# EAGLE library part IC-LDO-MIC5355-* (library mylib)
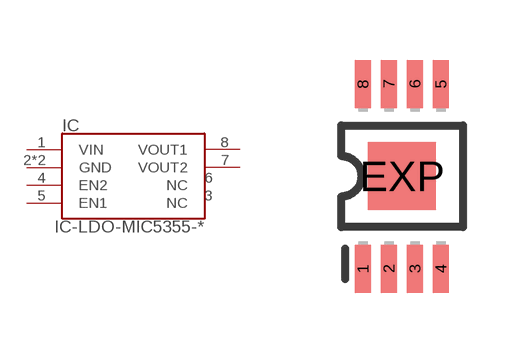
[diagram p102: symbol with the pads of IC-08-0.65-160MIL-EP; footprint IC-08-0.65-160MIL-EP]

Designator prefix IC

## IC-LDO-MIC5355-, IC-LDO-MIC5355-3.3/1.8 (DIGIKEY: 576-3882-5-ND; MOUSER: 998-MIC5355-SGYMME)  [IC-08-0.65-160MIL-EP]
1  VIN
2  GND
3  NC
4  EN2
5  EN1
6  NC
7  VOUT2
8  VOUT1
EXP  GND

## Footprint IC-08-0.65-160MIL-EP (pad centres in mm)
Mini Small Outline Package
smd 0.4 x 1.2: 1 -0.976,-2.313; 2 -0.326,-2.313; 3 0.324,-2.313; 4 0.974,-2.313; 5 0.974,2.312; 6 0.324,2.312; 7 -0.326,2.312; 8 -0.976,2.312
smd 1.7 x 1.7: EXP 0,0